# EAGLE library part TESTDIGITALPOT (library DMF_digitalPOT_i2C)
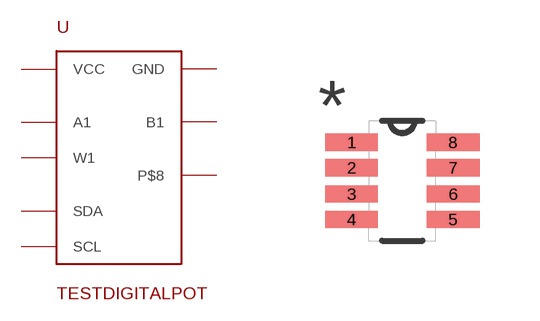
[diagram p0: symbol with the pads of TESTDIGITALPOT; footprint TESTDIGITALPOT]

Designator prefix U

## TESTDIGITALPOT  [TESTDIGITALPOT]
1  VCC
2  A1
3  W1
4  SCL
5  SDA
6  P$8
7  B1
8  GND

## Footprint TESTDIGITALPOT (pad centres in mm)
smd 1.321 x 0.432: 1 0.87,-0.295; 2 0.87,-0.93; 3 0.87,-1.59; 4 0.87,-2.225; 5 3.41,-2.225; 6 3.41,-1.59; 7 3.41,-0.93; 8 3.41,-0.295